# Altium footprint library PcbLib1.PcbLib: 14 footprints
Each footprint in its own frame and in the unit in brackets; x right, y up, seen from the top. Pads: shape width x height; smd on the part's side, far side on the other; paste and mask are expansions set on the pad; w line width, h text height; cw(c..) or ccw(c..) is an arc to the next point about the centre after c.
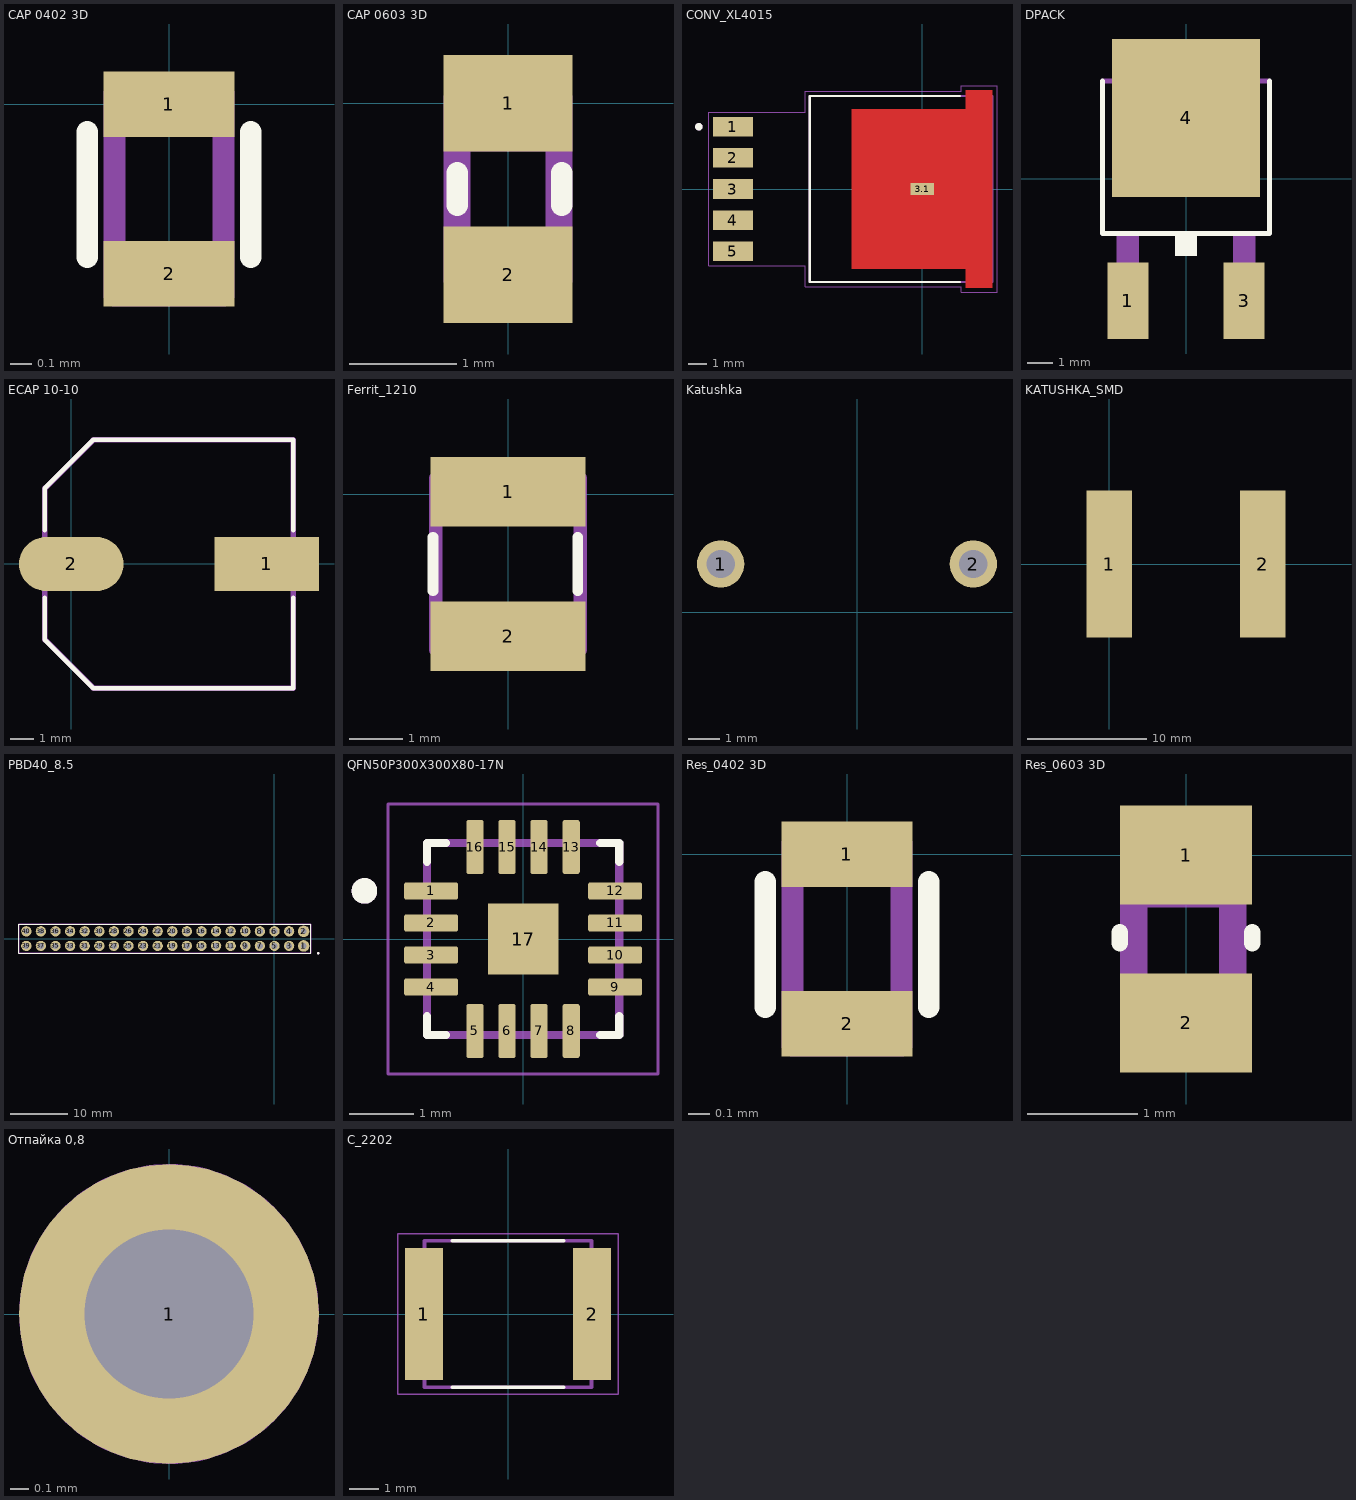
[diagram p0: the footprints below, top view; thin cyan lines are the x and y axes]

## CAP 0402 3D [mm] "Конденсатор керамический ЧИП (SMD)"
height 0.5
pads (2):
  rect 0.6x0.3 smd mask+0.1: 1(0,0) 2(0,-0.775)
Top Overlay:
  lines w0.1: -0.375,-0.7 -0.375,-0.125 ; 0.375,-0.7 0.375,-0.125
Mechanical 3:
  lines w0.1: -0.25,-0.725 0.225,-0.725 ; -0.225,-0.1 0.225,-0.1 ; -0.25,-0.875 0.25,-0.875 0.25,0.05 -0.25,0.05 -0.25,-0.875
3D body "Cap_0402.STEP": height 0.5, standoff 0, extent -0.25,-0.875 0.25,0.125

## CAP 0603 3D [mm] "Конденсатор керамический ЧИП (SMD)"
height 0.5
pads (2):
  rect 1.2x0.9 smd: 1(0,0) 2(0,-1.6)
Top Overlay:
  lines w0.2: -0.475,-0.95 -0.475,-0.65 ; 0.5,-0.95 0.5,-0.65
Mechanical 3:
  lines w0.25: -0.45,-1.3 0.45,-1.3 ; -0.45,-0.325 0.45,-0.325 ; -0.475,-1.65 0.475,-1.65 0.475,0.05 -0.475,0.05 -0.475,-1.65
3D body "cap_0603.step": height 0.86, standoff 0, extent -0.4,-1.65 0.4,-0.05

## CONV_XL4015 [mm]
height 4.77
pads (6):
  rect 2.16x1.07 smd: 1(-10.335,3.4) 2(-10.335,1.7) 3(-10.335,0) 4(-10.335,-1.7) 5(-10.335,-3.4)
  rect 1.27x0.635 smd paste-2 mask+0: 3.1(0,0)
Top Layer:
  region: 3.835,-5.4 2.365,-5.4 2.365,-4.35 -3.835,-4.35 -3.835,4.35 2.365,4.35 2.365,5.4 3.835,5.4
Top Overlay:
  circle w0.2: c-12.2,3.4 r0.1
  lines w0.127: 2.05,-5.08 -6.135,-5.08 -6.135,5.08 2.05,5.08
Top Paste:
  region: 3.2,0.88 0.6,0.88 0.6,3.48 3.2,3.48
  region: -0.6,-3.48 -3.2,-3.48 -3.2,-0.88 -0.6,-0.88
  region: 3.2,-3.48 0.6,-3.48 0.6,-0.88 3.2,-0.88
  region: -0.6,0.88 -3.2,0.88 -3.2,3.48 -0.6,3.48
Top Solder:
  region: 3.935,-5.5 2.265,-5.5 2.265,-4.45 -3.935,-4.45 -3.935,4.45 2.265,4.45 2.265,5.5 3.935,5.5
Mechanical 13:
  circle w0.2: c-12.2,3.4 r0.1
  lines w0.127: -6.135,-5.08 -6.135,5.08 3.835,5.08 3.835,-5.08 -6.135,-5.08
Mechanical 15:
  lines w0.05: -11.665,-4.185 -11.665,4.185 -6.385,4.185 -6.385,5.33 2.12,5.33 2.12,5.65 4.085,5.65 4.085,-5.65 2.12,-5.65 2.12,-5.33 -6.385,-5.33 -6.385,-4.185 -11.665,-4.185
3D body "step_temp.STEP": height 4.83, standoff -0.02, extent -11.239,-5.08 3.111,5.08

## DPACK [mm]
pads (3):
  rect 1.6x3 smd: 1(-2.28,-4.8) 3(2.28,-4.8)
  rect 5.8x6.2 smd: 4(0,2.38)
Top Overlay:
  region: 0.432,-3.023 -0.432,-3.023 -0.432,-2.261 0.432,-2.261
  lines w0.203: -3.277,3.835 -3.277,-2.159 3.277,-2.159 3.277,3.835
Mechanical 13:
  region: 2.565,4.648 2.565,3.937 -2.565,3.937 -2.565,4.648 -2.108,5.105 2.108,5.105
  region: 2.718,-5.156 1.854,-5.156 1.854,-2.261 2.718,-2.261
  region: -1.854,-5.156 -2.718,-5.156 -2.718,-2.261 -1.854,-2.261
  lines w0.203: -3.277,3.835 3.277,3.835 ; -2.565,3.937 2.565,3.937 2.565,4.648 2.108,5.105 -2.108,5.105 -2.565,4.648 -2.565,3.937
3D body "step_temp.STEP": height 2.4, standoff 0, extent -3.25,-4.862 3.25,4.862

## ECAP 10-10 [mm] "Конденсатор электролит ЧИП (SMD)"
height 10
pads (2):
  rect 4.55x2.35 smd: 1(8.5,0)
  oval 4.55x2.35 smd: 2(0,0)
Top Overlay:
  lines w0.2: -1.15,-1.475 -1.15,-3.288 0.963,-5.4 9.65,-5.4 9.65,-1.475 ; -1.15,1.475 -1.15,3.287 0.963,5.4 9.65,5.4 9.65,1.475
Mechanical 3:
  lines w0.25: -1.15,-3.288 -1.15,3.287 0.963,5.4 9.65,5.4 9.65,-5.4 0.963,-5.4 -1.15,-3.288
3D body "capae-10.3x10.3h10.2.step": height 10.2, standoff 0, extent -1.625,-5.15 10.125,5.15

## Ferrit_1210 [mm] "Феррит ЧИП (SMD)"
height 0.6
pads (2):
  rect 2.9x1.3 smd: 1(0,0.05) 2(0,-2.65)
Top Overlay:
  lines w0.2: -1.4,-1.8 -1.4,-0.8 ; 1.3,-1.8 1.3,-0.8
Mechanical 3:
  lines w0.25: -1.35,-0.325 1.3,-0.325 ; -1.325,-2.275 1.325,-2.275 ; -1.35,-2.9 1.35,-2.9 1.35,0.3 -1.35,0.3 -1.35,-2.9
3D body "cap_1210.step": height 1.4, standoff 0, extent -1.25,-2.95 1.25,0.25

## Katushka [mm]
pads (2):
  round 1.5 hole 0.9: 1(-4.318,1.524) 2(3.683,1.524)
3D body "Katushka.STEP": height 13.52, standoff -1.23, extent -4.686,-5.38 4.064,7.92

## KATUSHKA_SMD [mm] "IHLP6767GZER470M11, ЧИП-индуктивность экранированная 47мкГн ±20% 8,7A 42,7мОм 6767 лента на катушке"
pads (2):
  rect 3.825x12.32 smd: 1(0,0) 2(12.9,0)
3D body "ihlp6767gzer470m11.stp": height 7.29, standoff 0.4, extent -2.204,-8.712 14.971,8.464

## PBD40_8.5 [mm]
pads (40):
  round 2 hole 1: 1(5.08,-1.27) 2(5.08,1.27)
  round 1.8 hole 1: 3(2.54,-1.27) 4(2.54,1.27) 5(0,-1.27) 6(0,1.27) 7(-2.54,-1.27) 8(-2.54,1.27) 9(-5.08,-1.27) 10(-5.08,1.27) 11(-7.62,-1.27) 12(-7.62,1.27) 13(-10.16,-1.27) 14(-10.16,1.27) 15(-12.7,-1.27) 16(-12.7,1.27) 17(-15.24,-1.27) 18(-15.24,1.27) 19(-17.78,-1.27) 20(-17.78,1.27) 21(-20.32,-1.27) 22(-20.32,1.27) 23(-22.86,-1.27) 24(-22.86,1.27) 25(-25.4,-1.27) 26(-25.4,1.27) 27(-27.94,-1.27) 28(-27.94,1.27) 29(-30.48,-1.27) 30(-30.48,1.27) 31(-33.02,-1.27) 32(-33.02,1.27) 33(-35.56,-1.27) 34(-35.56,1.27) 35(-38.1,-1.27) 36(-38.1,1.27) 37(-40.64,-1.27) 38(-40.64,1.27) 39(-43.18,-1.27) 40(-43.18,1.27)
Top Overlay:
  circle w0.254: c7.62,-2.54 r0.125
  lines w0.2: -44.45,-2.54 -44.45,2.54 6.35,2.54 6.35,-2.54 -44.45,-2.54
Bottom Overlay:
  circle w0.254: c7.62,-2.54 r0.125
Mechanical 13:
  circle w0.254: c7.62,-2.54 r0.125
  lines w0.254: -44.45,-2.54 -44.45,2.54 6.35,2.54 6.35,-2.54 -44.45,-2.54
  text ".Designator" at -2.54,3.81 h2.15
3D body "User Library-PBD2_54-40.STEP": height 8.4, standoff -2.7, extent -44.45,-2.54 6.35,2.54

## QFN50P300X300X80-17N [mm]
pads (17):
  rrect25% 0.84x0.27 smd: 1(-1.435,0.75) 2(-1.435,0.25) 3(-1.435,-0.25) 4(-1.435,-0.75) 9(1.435,-0.75) 10(1.435,-0.25) 11(1.435,0.25) 12(1.435,0.75)
  rrect25% 0.27x0.84 smd: 5(-0.75,-1.435) 6(-0.25,-1.435) 7(0.25,-1.435) 8(0.75,-1.435) 13(0.75,1.435) 14(0.25,1.435) 15(-0.25,1.435) 16(-0.75,1.435)
  rect 1.1x1.1 smd paste-0.2: 17(0,0)
Top Overlay:
  circle w0.2: c-2.475,0.75 r0.1
  lines w0.127: -1.5,-1.205 -1.5,-1.5 -1.205,-1.5 ; -1.5,1.205 -1.5,1.5 -1.205,1.5 ; 1.205,-1.5 1.5,-1.5 1.5,-1.205 ; 1.205,1.5 1.5,1.5 1.5,1.205
Mechanical 13:
  circle w0.2: c-2.475,0.75 r0.1
  lines w0.127: -1.5,-1.5 1.5,-1.5 1.5,1.5 -1.5,1.5 -1.5,-1.5
Mechanical 15:
  lines w0.05: -2.105,-2.105 2.105,-2.105 2.105,2.105 -2.105,2.105 -2.105,-2.105
3D body "step_temp.STEP": height 0.9, standoff 0, extent -1.5,-1.5 1.5,1.5

## Res_0402 3D [mm] "Резистор ЧИП (SMD)"
height 0.35
pads (2):
  rect 0.6x0.3 smd mask+0.1: 1(0,0) 2(0,-0.775)
Top Overlay:
  lines w0.1: -0.375,-0.7 -0.375,-0.125 ; 0.375,-0.7 0.375,-0.125
Mechanical 3:
  lines w0.1: -0.25,-0.725 0.225,-0.725 ; -0.225,-0.1 0.225,-0.1 ; -0.25,-0.875 -0.25,0.05 0.25,0.05 0.25,-0.875 -0.25,-0.875
3D body "Res_0402.STEP": height 0.35, standoff 0, extent -0.25,-0.9 0.25,0.1

## Res_0603 3D [mm] "Резистор ЧИП (SMD)"
pads (2):
  rect 1.2x0.9 smd: 1(0,0) 2(0,-1.524)
Top Overlay:
  lines w0.15: -0.6,-0.8 -0.6,-0.7 ; 0.6,-0.8 0.6,-0.7
Mechanical 3:
  lines w0.25: -0.45,-0.375 -0.425,-0.35 0.4,-0.35 ; -0.425,-1.25 0.425,-1.25 ; -0.475,-1.625 0.425,-1.625 0.425,0 0.4,0.025 -0.475,0.025 -0.475,-1.625
3D body "res_0603.step": height 0.63, standoff 0, extent -0.3,-1.55 0.3,0.05

## Отпайка 0,8 [mm] "D=0.8mm"
pads (1):
  round 1.6 hole 0.9: 1(0,0)
Mechanical 3:
  circle w0.8: c0,0 r0.4

## С_2202 [mm]
height 2.8
pads (2):
  rect 1.3x4.5 smd: 1(-2.875,0) 2(2.875,0)
Top Overlay:
  lines w0.127: -1.905,-2.5 1.905,-2.5 ; -1.905,2.5 1.905,2.5
Mechanical 13:
  lines w0.127: -2.85,-2.5 -2.85,2.5 2.85,2.5 2.85,-2.5 -2.85,-2.5
Mechanical 15:
  lines w0.05: -3.775,-2.75 -3.775,2.75 3.775,2.75 3.775,-2.75 -3.775,-2.75
3D body "step_temp.STEP": height 2.8, standoff 0, extent -2.85,-2.5 2.85,2.5